# Altium footprint library PCB1.PcbLib: 20 footprints (part 2 of 2)
Each footprint in its own frame and in the unit in brackets; x right, y up, seen from the top. Pads: shape width x height; smd on the part's side, far side on the other; paste and mask are expansions set on the pad; w line width, h text height; cw(c..) or ccw(c..) is an arc to the next point about the centre after c.
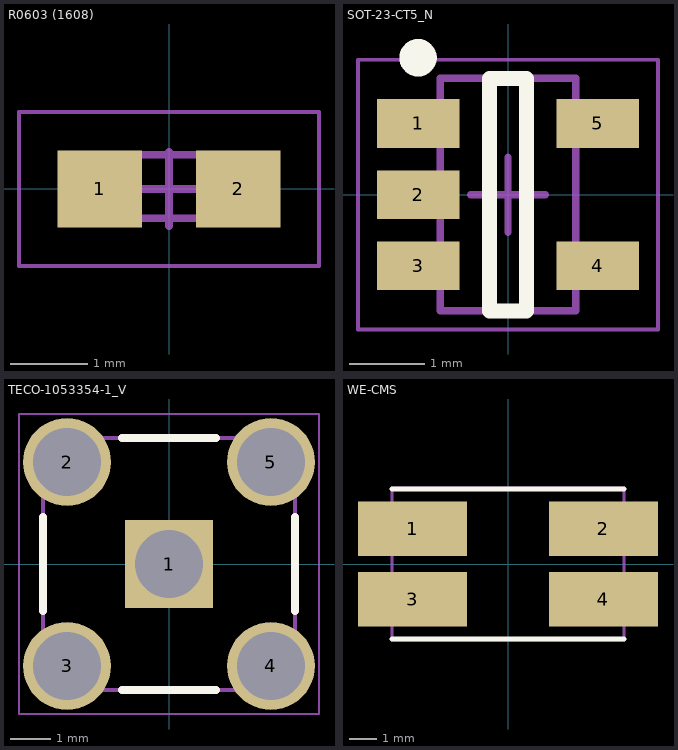
[diagram p1: the footprints below, top view; thin cyan lines are the x and y axes]

## R0603 (1608) [mm]
pads (2):
  rect 1.1x1 smd: 1(-0.9,0) 2(0.9,0)
Mechanical 13:
  lines w0.1: -0.826,-0.381 -0.826,0.445 0.826,0.445 0.826,-0.381 -0.826,-0.381
Mechanical 15:
  lines w0.05: -1.95,-1 -1.95,1 1.95,1 1.95,-1 -1.95,-1
  lines w0.1: -0.48,0 0.48,0 ; 0,-0.48 0,0.48
3D body "RES 0603.STEP": height 0.45, standoff 0, extent -0.8,-0.419 0.8,0.381

## SOT-23-CT5_N [mm]
pads (5):
  rect 1.1x0.65 smd: 1(-1.2,0.95) 2(-1.2,0) 3(-1.2,-0.95) 4(1.2,-0.95) 5(1.2,0.95)
Top Overlay:
  circle w0.25: c-1.2,1.825 r0.125
  lines w0.2: -0.25,-1.55 -0.25,1.55 0.25,1.55 0.25,-1.55 -0.25,-1.55
Mechanical 13:
  lines w0.1: -0.9,-1.55 0.9,-1.55 0.9,1.55 -0.9,1.55 -0.9,-1.55
Mechanical 15:
  lines w0.05: -2,-1.8 2,-1.8 2,1.8 -2,1.8 -2,-1.8
  lines w0.1: -0.5,0 0.5,0 ; 0,-0.5 0,0.5
3D body: height 1.45, standoff 0, extent -0.9,-1.55 0.9,1.55

## TECO-1053354-1_V [mm]
pads (5):
  rect 2.2x2.2 hole 1.7: 1(0,0)
  round 2.2 hole 1.7: 2(-2.55,2.55) 3(-2.55,-2.55) 4(2.55,-2.55) 5(2.55,2.55)
Top Overlay:
  lines w0.2: -3.15,-1.175 -3.15,1.175 ; -1.175,-3.15 1.175,-3.15 ; -1.175,3.15 1.175,3.15 ; 3.15,-1.175 3.15,1.175
Mechanical 13:
  lines w0.1: -3.15,-3.15 -3.15,3.15 3.15,3.15 3.15,-3.15 -3.15,-3.15
Mechanical 15:
  lines w0.05: -3.75,-3.75 -3.75,3.75 3.75,3.75 3.75,-3.75 -3.75,-3.75
  lines w0.1: -0.5,0 0.5,0 ; 0,-0.5 0,0.5
3D body "c-1053354-01-a-3d.stp": height 9.6, standoff -3.91, extent -3.175,-3.175 3.175,3.175

## WE-CMS [mm]
pads (4):
  rect 4x2 smd: 1(-3.5,1.3) 2(3.5,1.3) 3(-3.5,-1.3) 4(3.5,-1.3)
Top Overlay:
  lines w0.2: -4.25,-2.75 4.25,-2.75 ; -4.25,2.75 4.25,2.75
Mechanical 1:
  lines w0.1: -4.25,-2.8 -4.25,2.8 4.25,2.8 4.25,-2.8 -4.25,-2.8
3D body "7427521.stp": height 3.19, standoff -0.01, extent -4.45,-2.85 4.45,2.75